# EAGLE library part SAM-M8Q (library SAM-M8Q)
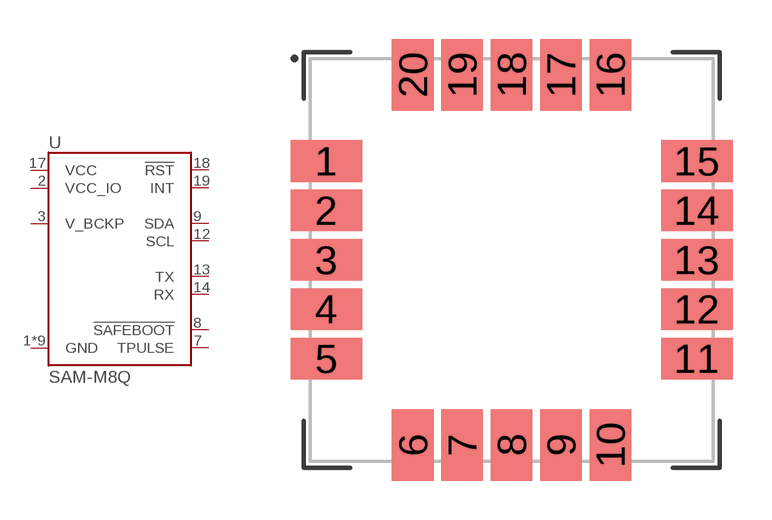
[diagram p0: symbol with the pads of SAM-M8Q; footprint SAM-M8Q]

Designator prefix U

## SAM-M8Q  [SAM-M8Q]
1  GND
2  VCC_IO
3  V_BCKP
4  GND
5  GND
6  GND
7  TPULSE
8  !SAFEBOOT
9  SDA
10  GND
11  GND
12  SCL
13  TX
14  RX
15  GND
16  GND
17  VCC
18  !RST
19  INT
20  GND

## Footprint SAM-M8Q (pad centres in mm)
smd 2.75 x 1.6: 1 -7.125,3.8; 2 -7.125,1.9; 3 -7.125,0; 4 -7.125,-1.9; 5 -7.125,-3.8; 11 7.125,-3.8; 12 7.125,-1.9; 13 7.125,0; 14 7.125,1.9; 15 7.125,3.8
smd 1.6 x 2.75: 6 -3.8,-7.125; 7 -1.9,-7.125; 8 0,-7.125; 9 1.9,-7.125; 10 3.8,-7.125; 16 3.8,7.125; 17 1.9,7.125; 18 0,7.125; 19 -1.9,7.125; 20 -3.8,7.125